# EAGLE library part HEADER-SMD6 (library monome-inc)
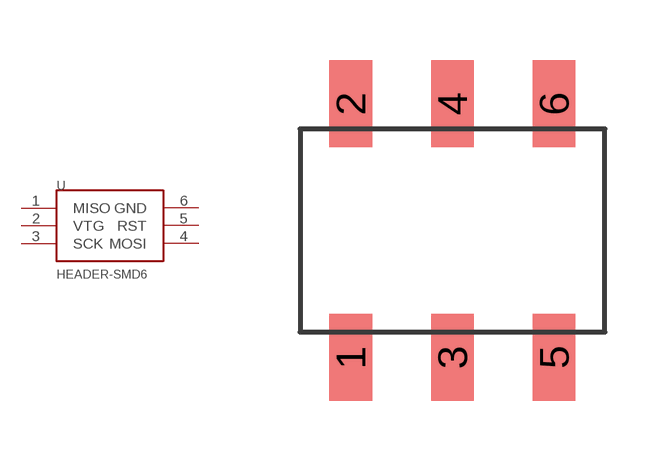
[diagram p3: symbol with the pads of HEADER-SMD6; footprint HEADER-SMD6]

Designator prefix -

## HEADER-SMD6  [HEADER-SMD6]
1  MISO
2  VTG
3  SCK
4  MOSI
5  RST
6  GND

## Footprint HEADER-SMD6 (pad centres in mm)
smd 1.067 x 2.184: 1 -2.54,-3.175; 2 -2.54,3.175; 3 0,-3.175; 4 0,3.175; 5 2.54,-3.175; 6 2.54,3.175